# Altium footprint library 喂鸟.PcbLib: 13 footprints
Each footprint in its own frame and in the unit in brackets; x right, y up, seen from the top. Pads: shape width x height; smd on the part's side, far side on the other; paste and mask are expansions set on the pad; w line width, h text height; cw(c..) or ccw(c..) is an arc to the next point about the centre after c.
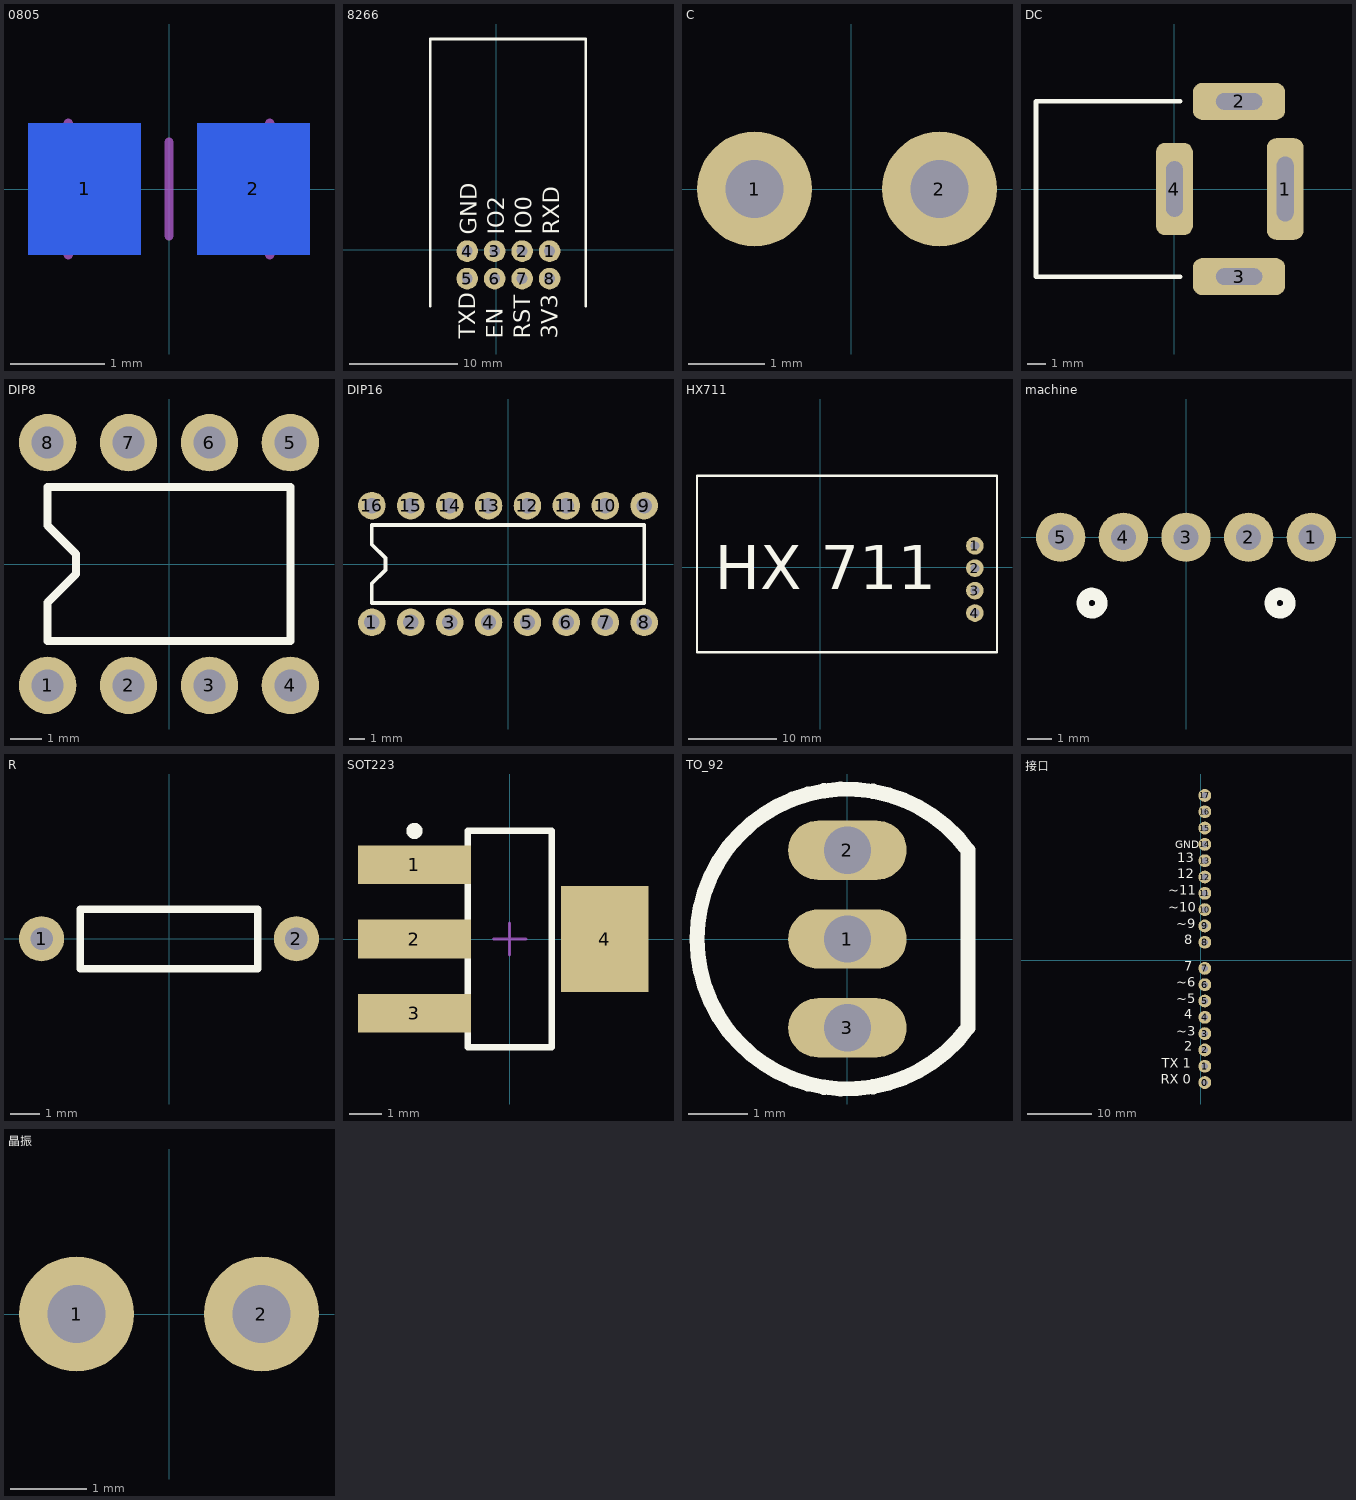
[diagram p0: the footprints below, top view; thin cyan lines are the x and y axes]

## 0805 [mm]
pads (2):
  rect 1.2x1.4 smd far side: 1(-0.9,0) 2(0.9,0)
Bottom Overlay:
  lines w0.2: 0,-0.6 0,0.6
Mechanical 13:
  lines w0.1: -1.075,-0.7 -1.075,0.7 ; 1.075,-0.7 1.075,0.7
Mechanical 15:
  lines w0.1: 0,-0.5 0,0.5

## 8266 [mm]
pads (8):
  round 2 hole 1: 1(4.953,-0.127) 2(2.413,-0.127) 3(-0.127,-0.127) 4(-2.667,-0.127) 5(-2.667,-2.667) 6(-0.127,-2.667) 7(2.413,-2.667) 8(4.953,-2.667)
Top Overlay:
  lines w0.254: -6.096,-5.207 -6.096,19.493 8.304,19.493 8.304,-5.207
  text "IO0" at 3.302,1.397 h1.52
  text "IO2" at 0.762,1.397 h1.52
  text "GND" at -1.778,1.397 h1.52
  text "3V3" at 5.715,-8.255 h1.52
  text "RST" at 3.175,-8.255 h1.52
  text "EN" at 0.635,-8.255 h1.52
  text "TXD" at -1.905,-8.255 h1.52
  text "RXD" at 5.842,1.397 h1.52

## C [mm]
pads (2):
  round 1.5 hole 0.762: 1(-1.262,0) 2(1.151,0)

## DC [mm]
pads (4):
  rrect50% 2x5.5 hole 3.5 slot 0.9 at 0 deg: 1(6,0)
  rrect50% 5x2 hole 0.9 slot 2.5 at 0 deg: 2(3.5,4.745) 3(3.5,-4.745)
  rrect50% 2x5 hole 3 slot 0.9 at 0 deg: 4(0,0)
Top Overlay:
  lines w0.254: -7.5,4.745 -7.5,-4.754 0.313,-4.754 ; -7.493,4.745 0.32,4.745

## DIP8 [mm]
pads (8):
  round 1.8 hole 1: 1(-3.81,-3.81) 2(-1.27,-3.81) 3(1.27,-3.81) 4(3.81,-3.81) 5(3.81,3.81) 6(1.27,3.81) 7(-1.27,3.81) 8(-3.81,3.81)
Top Overlay:
  lines w0.254: -3.81,-2.413 3.81,-2.413 3.81,2.413 -3.81,2.413 -3.81,1.206 -2.921,0.318 -2.921,-0.318 -3.81,-1.206 -3.81,-2.413

## DIP16 [mm]
pads (16):
  round 1.8 hole 1: 1(-8.89,-3.81) 2(-6.35,-3.81) 3(-3.81,-3.81) 4(-1.27,-3.81) 5(1.27,-3.81) 6(3.81,-3.81) 7(6.35,-3.81) 8(8.89,-3.81) 9(8.89,3.81) 10(6.35,3.81) 11(3.81,3.81) 12(1.27,3.81) 13(-1.27,3.81) 14(-3.81,3.81) 15(-6.35,3.81) 16(-8.89,3.81)
Top Overlay:
  lines w0.254: -8.89,-2.54 8.89,-2.54 8.89,2.54 -8.89,2.54 -8.89,1.27 -8.001,0.381 -8.001,-0.381 -8.89,-1.27 -8.89,-2.54

## HX711 [mm]
pads (4):
  round 2 hole 1: 1(17.526,2.413) 2(17.526,-0.127) 3(17.526,-2.667) 4(17.526,-5.207)
Top Overlay:
  lines w0.254: -13.97,-9.652 20.03,-9.652 20.03,10.348 -13.97,10.348 -13.97,-9.652
  text "HX 711" at -11.938,-2.54 h5

## machine [mm]
pads (5):
  round 2 hole 1.02: 1(5.08,0) 2(2.54,0) 3(0,0) 4(-2.54,0) 5(-5.08,0)
Top Overlay:
  circle w0.254: c3.81,-2.667 r0.254
  circle w0.254: c-3.81,-2.667 r0.254
  circle w0.254: c-3.81,-2.667 r0.5
  circle w0.254: c3.81,-2.667 r0.5

## R [mil]
height 27.56
pads (2):
  round 60 hole 30: 1(-169.29,0) 2(169.29,0)
Top Overlay:
  lines w10: -118.11,-40 -118.11,39.37 0,39.37 118.11,39.37 118.11,-40 -118.11,-40

## SOT223 [mm] "SOT223, 4-Leads, Body 6.5x3.5mm, Pitch 2.3mm, Lead Span 7mm, IPC Low Density"
height 1.7
pads (4):
  rect 3.5x1.2 smd: 1(-2.95,2.3) 2(-2.95,0) 3(-2.95,-2.3)
  rect 2.7x3.3 smd: 4(2.95,0)
Top Overlay:
  circle w0.25: c-2.95,3.35 r0.125
  lines w0.2: -1.3,-3.35 -1.3,3.35 1.3,3.35 1.3,-3.35 -1.3,-3.35
Mechanical 15:
  lines w0.1: -0.5,0 0.5,0 ; 0,-0.5 0,0.5

## TO_92 [mm]
pads (3):
  oval 2x1 hole 0.8: 1(0.008,0) 2(0.008,1.5) 3(0.008,-1.5)
Top Overlay:
  lines w0.254: 2.04,-1.5 cw(c0,0) 2.04,1.5 2.04,-1.5

## 接口 [mm]
pads (18):
  round 2 hole 1.02: 0(0.635,-19.05) 1(0.635,-16.51) 2(0.635,-13.97) 3(0.635,-11.43) 4(0.635,-8.89) 5(0.635,-6.35) 6(0.635,-3.81) 7(0.635,-1.27) 8(0.635,2.794) 9(0.635,5.334) 10(0.635,7.874) 11(0.635,10.414) 12(0.635,12.954) 13(0.635,15.494) 14(0.635,18.034) 15(0.635,20.574) 16(0.635,23.114) 17(0.635,25.654)
Top Overlay:
  text "RX 0" at -6.223,-19.812 h2.54
  text "TX 1" at -6.096,-17.272 h2.54
  text "2" at -2.54,-14.605 h2.54
  text "~3" at -3.81,-12.319 h2.54
  text "4" at -2.54,-9.652 h2.54
  text "~5" at -3.81,-7.239 h2.54
  text "~6" at -3.81,-4.699 h2.54
  text "7" at -2.54,-2.159 h2.54
  text "8" at -2.54,1.905 h2.54
  text "~9" at -3.81,4.445 h2.54
  text "~10" at -5.08,6.985 h2.54
  text "~11" at -5.08,9.652 h2.54
  text "12" at -3.683,12.192 h2.54
  text "13" at -3.683,14.732 h2.54
  text "GND" at -3.937,17.399 h1.21

## 晶振 [mm]
pads (2):
  round 1.5 hole 0.762: 1(-1.206,0) 2(1.206,0)